# EAGLE library part CMC_36638-0002 (library hsk_2012)
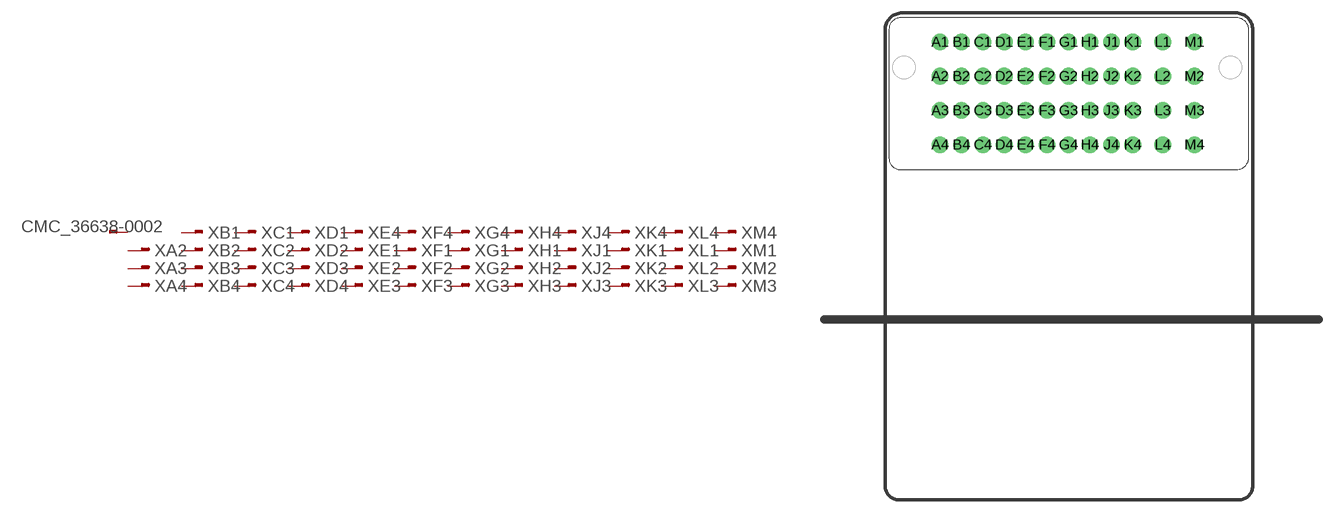
[diagram p53: symbol with the pads of CMC_36638-0002_MOLEX; footprint CMC_36638-0002_MOLEX]

Designator prefix X; gates A2=CON A3=CON A4=CON B1=CON B2=CON B3=CON B4=CON C1=CON C2=CON C3=CON C4=CON D1=CON D2=CON D3=CON D4=CON E4=CON E1=CON E2=CON E3=CON F4=CON F1=CON F2=CON F3=CON G4=CON G1=CON G2=CON G3=CON H4=CON H1=CON H2=CON H3=CON J4=CON J1=CON J2=CON J3=CON K4=CON K1=CON K2=CON K3=CON L4=CON L1=CON L2=CON L3=CON M4=CON M1=CON M2=CON M3=CON G$1=SINGLE_PAD

## CMC_36638-0002  [CMC_36638-0002_MOLEX]
A1  G$1:1
A2  A2:CON
A3  A3:CON
A4  A4:CON
B1  B1:CON
B2  B2:CON
B3  B3:CON
B4  B4:CON
C1  C1:CON
C2  C2:CON
C3  C3:CON
C4  C4:CON
D1  D1:CON
D2  D2:CON
D3  D3:CON
D4  D4:CON
E1  E1:CON
E2  E2:CON
E3  E3:CON
E4  E4:CON
F1  F1:CON
F2  F2:CON
F3  F3:CON
F4  F4:CON
G1  G1:CON
G2  G2:CON
G3  G3:CON
G4  G4:CON
H1  H1:CON
H2  H2:CON
H3  H3:CON
H4  H4:CON
J1  J1:CON
J2  J2:CON
J3  J3:CON
J4  J4:CON
K1  K1:CON
K2  K2:CON
K3  K3:CON
K4  K4:CON
L1  L1:CON
L2  L2:CON
L3  L3:CON
L4  L4:CON
M1  M1:CON
M2  M2:CON
M3  M3:CON
M4  M4:CON

## Footprint CMC_36638-0002_MOLEX (pad centres in mm)
drill 1.1 pad 1.93: A1 -15,6; A2 -15,2; A3 -15,-2; A4 -15,-6; B1 -12.5,6; B2 -12.5,2; B3 -12.5,-2; B4 -12.5,-6; C1 -10,6; C2 -10,2; C3 -10,-2; C4 -10,-6; D1 -7.5,6; D2 -7.5,2; D3 -7.5,-2; D4 -7.5,-6; E1 -5,6; E2 -5,2; E3 -5,-2; E4 -5,-6; F1 -2.5,6; F2 -2.5,2; F3 -2.5,-2; F4 -2.5,-6; G1 0,6; G2 0,2; G3 0,-2; G4 0,-6; H1 2.5,6; H2 2.5,2; H3 2.5,-2; H4 2.5,-6; J1 5,6; J2 5,2; J3 5,-2; J4 5,-6; K1 7.5,6; K2 7.5,2; K3 7.5,-2; K4 7.5,-6; L1 11,6; L2 11,2; L3 11,-2; L4 11,-6; M1 14.7,6; M2 14.7,2; M3 14.7,-2; M4 14.7,-6